# EAGLE library part GH1.25-6P (library JST-GH1.25)
JST GH 1.25mm PITCH SMD HEADER
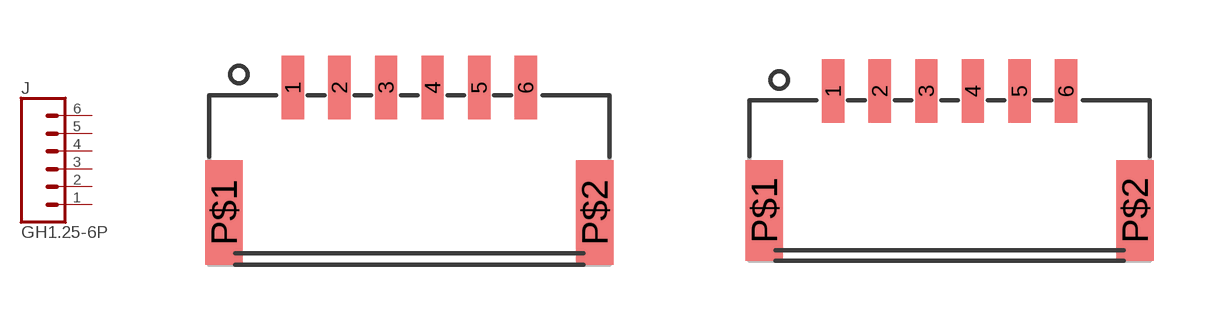
[diagram p0: symbol with the pads of BM06B-GHS-TBT; footprints BM06B-GHS-TBT, SM06B-GHS-TB]

Designator prefix J

## GH1.25-6P-BM06B-GHS-TBT  [BM06B-GHS-TBT]
1  1  pas
2  2  pas
3  3  pas
4  4  pas
5  5  pas
6  6  pas

## GH1.25-6P-SM06B-GHS-TB  [SM06B-GHS-TB]
Pads as for BM06B-GHS-TBT

## Footprint BM06B-GHS-TBT (pad centres in mm)
TOP ENTRY JST GH 1.25mm SMD HEADER
smd 0.6 x 1.7: 1 -3.125,4.75; 2 -1.875,4.75; 3 -0.625,4.75; 4 0.625,4.75; 5 1.875,4.75; 6 3.125,4.75
smd 1 x 2.8: P$1 -4.975,1.4; P$2 4.975,1.4

## Footprint SM06B-GHS-TB (pad centres in mm)
SIDE ENTRY JST GH 1.25mm SMD HEADER
smd 0.6 x 1.7: 1 -3.125,4.55; 2 -1.875,4.55; 3 -0.625,4.55; 4 0.625,4.55; 5 1.875,4.55; 6 3.125,4.55
smd 1 x 2.7: P$1 -4.975,1.35; P$2 4.975,1.35